# EAGLE library part ZM1232 (library mynixies)
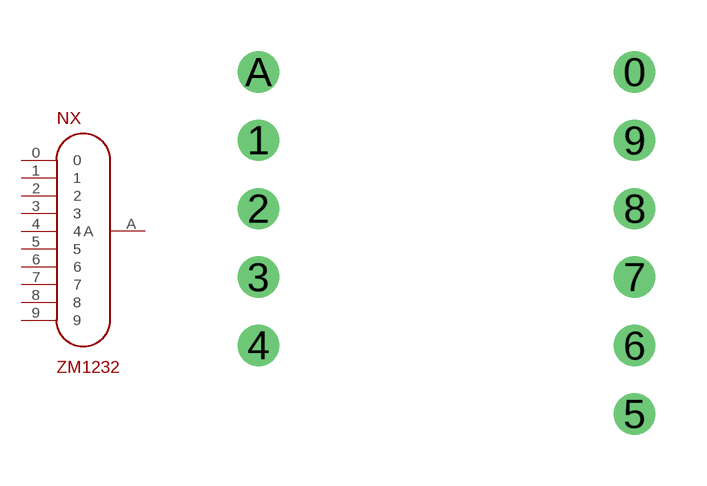
[diagram p16: symbol with the pads of ZM1232SPECIAL; footprint ZM1232SPECIAL]

Designator prefix NX

## ZM1232SPECIAL  [ZM1232SPECIAL]
0  0  pas
1  1  pas
2  2  pas
3  3  pas
4  4  pas
5  5  pas
6  6  pas
7  7  pas
8  8  pas
9  9  pas
A  A  pas

## Footprint ZM1232SPECIAL (pad centres in mm)
drill 0.7: 0 5.5,5; 1 -5.5,3; 2 -5.5,1; 3 -5.5,-1; 4 -5.5,-3; 5 5.5,-5; 6 5.5,-3; 7 5.5,-1; 8 5.5,1; 9 5.5,3; A -5.5,5